# Altium schematic symbol library Transistors.SchLib: 10 symbols
Pins are listed as number, name and electrical type; pins without a type are passive.

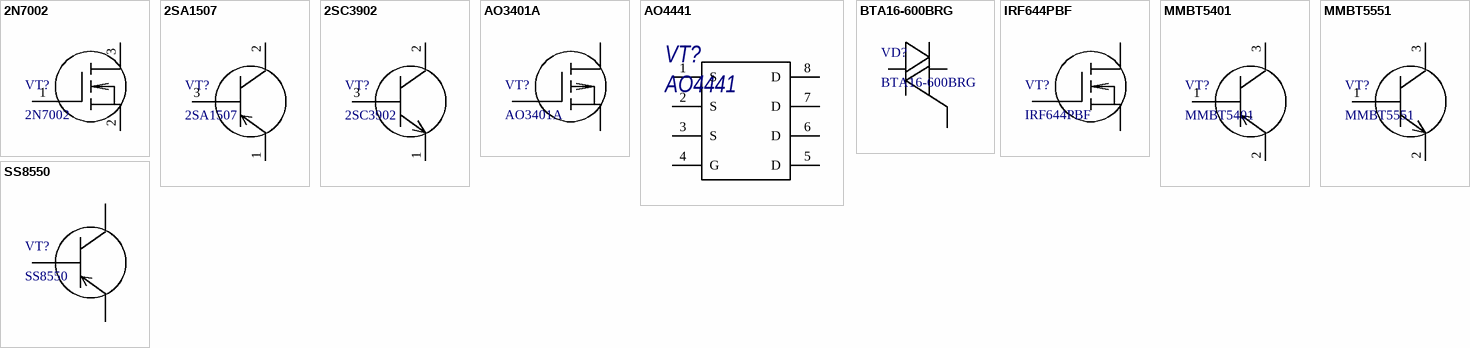
[diagram p0: symbols 2N7002 to SS8550]

## 2N7002
designator VT?
2N7002, Транзистор N-MOSFET 60В 115мА [SOT-23-3]; link: https://www.chipdip.ru/product/2n7002-umw
footprint SOT23-3 (SOT23, 3 pin)
pins: 1 G, 2 S, 3 D

## 2SA1507
designator VT?
footprint TO230P345X800X1470-3P
pins: 1 E, 2 C, 3 B

## 2SC3902
designator VT?
footprint TO230P345X800X1470-3P
pins: 1 E, 2 C, 3 B

## AO3401A
designator VT?
AO3401A, Транзистор P-MOSFET 30В 4.2А [SOT-23-3]; link: https://www.chipdip.ru/product/ao3401a-umw
footprint SOT23-3 (SOT23, 3 pin)
pins: 1 G, 2 S, 3 D

## AO4441
designator VT?
AO4441, Транзистор P-MOSFET 60В 4А 3.1Вт [SOP-8]; ComponentLink1Description: link; ComponentLink1URL: https://www.chipdip.ru/product/ao4441
footprint SO-8
pins: 1 S, 2 S, 3 S, 4 G, 5 D, 6 D, 7 D, 8 D

## BTA16-600BRG
designator VD?
https://www.chipdip.ru/product/bta16-600b; spec: BTA16-600BRG, Симистор 16А 600В, 50мА Standard [TO-220AB]
footprint TO-220
pins: 1 A1, 2 A2, 3 G

## IRF644PBF
designator VT?
IRF644PBF, Транзистор, N-канал 250В 14А [TO-220AB]; link: https://www.chipdip.ru/product/irf644
footprint TO-220_LIE
pins: 1 G, 2 D, 3 S

## MMBT5401
designator VT?
footprint SOT23-3 (SOT23, 3 pin)
pins: 1 B, 2 E, 3 C

## MMBT5551
designator VT?
footprint SOT23-3 (SOT23, 3 pin)
pins: 1 B, 2 E, 3 C

## SS8550
designator VT?
SS8550, Транзистор PNP 25В 1.5А [SOT-23-3]; link: https://www.chipdip.ru/product/ss8550-umw
footprint SOT23-3 (SOT23, 3 pin)
pins: 1 B, 2 E, 3 C